# Altium footprint library Connectors.PcbLib: 25 footprints (part 2 of 2)
Each footprint in its own frame and in the unit in brackets; x right, y up, seen from the top. Pads: shape width x height; smd on the part's side, far side on the other; paste and mask are expansions set on the pad; w line width, h text height; cw(c..) or ccw(c..) is an arc to the next point about the centre after c.
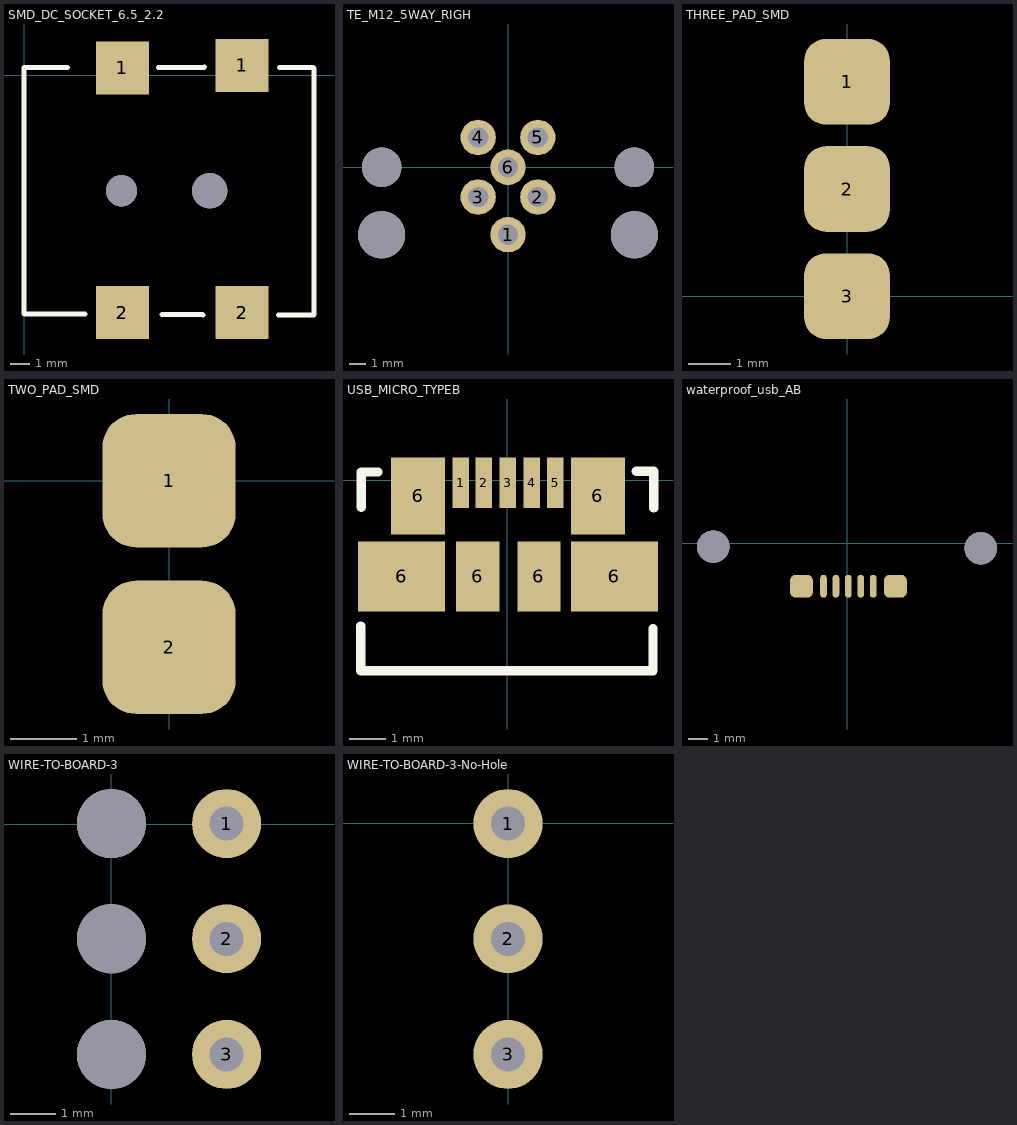
[diagram p1: the footprints below, top view; thin cyan lines are the x and y axes]

## SMD_DC_SOCKET_6.5_2.2 [mm] "Lumberg DC socket 1613 14"
pads (6):
  rect 2.7x2.7 smd: 1(5,0.381) 1(11.1,0.508) 2(5,-12.081) 2(11.1,-12.081)
  round 1.6 hole 1.6: ""(4.953,-5.875)
  round 1.8 hole 1.8: ""(9.446,-5.875)
Top Overlay:
  lines w0.254: 2.2,0.41 -0.02,0.41 -0.02,-12.14 0,-12.16 3.1,-12.16 ; 6.85,0.41 9.16,0.41 9.19,0.44 ; 7.02,-12.19 9.09,-12.19 9.11,-12.21 ; 12.96,-12.21 14.75,-12.21 14.77,-12.19 14.77,0.36 14.72,0.41 13.01,0.41
3D body "SMD_DC_SOCKET_6.5_2.2.stp": height 11.21, standoff -0.99, extent -0.034,-12.192 14.766,0.408

## TE_M12_5WAY_RIGH [mm] "M12 5 way connector, PCB mount, right angle into panel"
pads (10):
  round 2.1 hole 1.2: 1(0,-4) 2(1.77,-1.77) 3(-1.77,-1.77) 4(-1.77,1.77) 5(1.77,1.77) 6(0,0)
  round 2.8 hole 2.8: ""(-7.5,-4) ""(7.5,-4)
  round 2.35 hole 2.35: ""(-7.5,0) ""(7.5,0)
3D body "TE_M12_5WAY_RIGH.stp": height 16, standoff -3.49, extent -9.75,-22.857 9.75,2.413

## THREE_PAD_SMD [mm]
pads (3):
  rrect50% 2x2 smd: 1(0,5) 2(0,2.5) 3(0,0)

## TWO_PAD_SMD [mm] "Two SMD connectors"
pads (2):
  rrect50% 2x2 smd: 1(0,0) 2(0,-2.5)

## USB3140-30-0170-1-C [mm] "Vertical Micro USB, Type B"
3D body "usb3140-30-0170-1-x_revc.stp": height 8.2, standoff 0, extent -3.901,-1.93 3.901,2.07

## USB_MICRO_TYPEB [mm]
pads (11):
  rect 0.45x1.38 smd: 1(-1.28,-0.06) 2(-0.64,-0.06) 3(0.01,-0.06) 4(0.66,-0.06) 5(1.31,-0.06)
  rect 2.375x1.9 smd: 6(-2.89,-2.62) 6(2.92,-2.62)
  rect 1.475x2.1 smd: 6(-2.44,-0.42) 6(2.47,-0.42)
  rect 1.175x1.9 smd: 6(-0.81,-2.62) 6(0.86,-2.62)
Top Overlay:
  lines w0.254: -4,-3.97 -4,-5.19 3.97,-5.19 3.97,-4.04 ; -3.99,-0.73 -3.99,0.21 ; -3.99,0.23 -3.53,0.23 ; 3.51,0.25 3.99,0.25 3.99,-0.75
3D body "473460001.stp": height 2.77, standoff -0.17, extent -3.99,-5.18 3.99,0.25

## waterproof_usb_AB [mm] "Waterproof USB AB connector"
pads (9):
  oval 0.35x1.2 smd: 1(1.37,-2.25) 2(0.72,-2.25) 3(0.07,-2.25) 4(-0.58,-2.25) 5(-1.23,-2.25)
  round 1.7 hole 1.7: ""(-7,-0.17) ""(7,-0.26)
  rrect50% 1.2x1.2 smd: ""(-2.38,-2.25) ""(2.53,-2.25)
3D body "EDAC-690-W05-290-483.stp": height 4.83, standoff -0.87, extent -8.43,-2.64 8.57,4.16

## WIRE-TO-BOARD-3 [mil]
pads (6):
  round 60 hole 29.53: 1(100,0.39) 2(100,-99.61) 3(100,-200)
  round 60 hole 60: ""(0,-200) ""(0,-99.61) ""(0,0.39)

## WIRE-TO-BOARD-3-No-Hole [mm]
pads (3):
  round 1.524 hole 0.75: 1(0,-0.01) 2(0,-2.55) 3(0,-5.1)